# Altium schematic symbol library Connector.SchLib: 400 symbols (part 5 of 5)
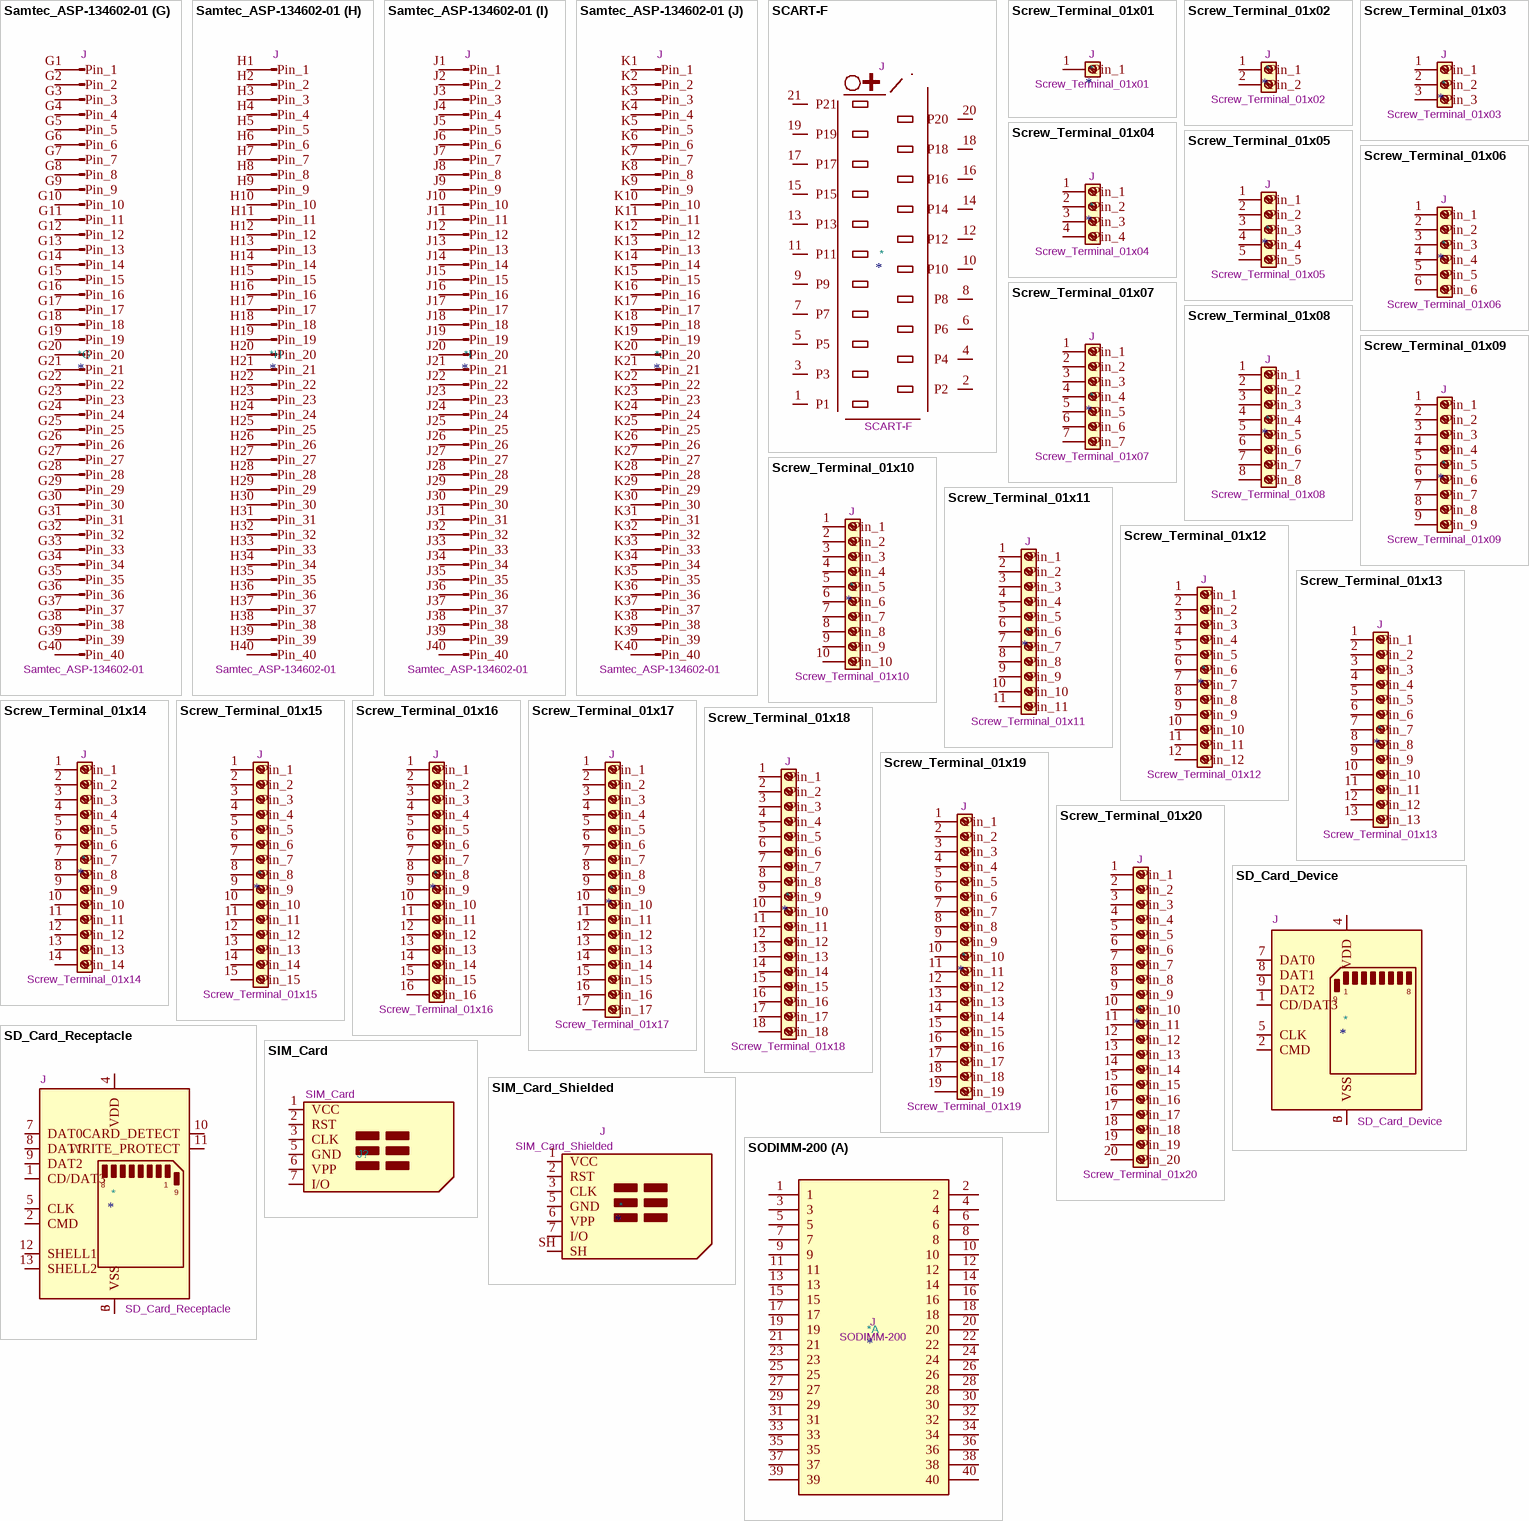
[diagram p21: symbols Samtec_ASP-134602-01 to SODIMM-200]

## Screw_Terminal_01x17
designator *  value Screw_Terminal_01x17  Reference: J
Generic screw terminal, single row, 01x17, script generated (kicad-library-utils/schlib/autogen/connector/); ki_fp_filters: TerminalBlock*:*; Datasheet: ~; Description_: Generic screw terminal, single row, 01x17, script generated (kicad-library-utils/schlib/autogen/connector/); ki_keywords: screw terminal
pins: 1 Pin_1, 2 Pin_2, 3 Pin_3, 4 Pin_4, 5 Pin_5, 6 Pin_6, 7 Pin_7, 8 Pin_8, 9 Pin_9, 10 Pin_10, 11 Pin_11, 12 Pin_12, 13 Pin_13, 14 Pin_14, 15 Pin_15, 16 Pin_16, 17 Pin_17

## Screw_Terminal_01x18
designator *  value Screw_Terminal_01x18  Reference: J
Generic screw terminal, single row, 01x18, script generated (kicad-library-utils/schlib/autogen/connector/); ki_fp_filters: TerminalBlock*:*; Datasheet: ~; Description_: Generic screw terminal, single row, 01x18, script generated (kicad-library-utils/schlib/autogen/connector/); ki_keywords: screw terminal
pins: 1 Pin_1, 2 Pin_2, 3 Pin_3, 4 Pin_4, 5 Pin_5, 6 Pin_6, 7 Pin_7, 8 Pin_8, 9 Pin_9, 10 Pin_10, 11 Pin_11, 12 Pin_12, 13 Pin_13, 14 Pin_14, 15 Pin_15, 16 Pin_16, 17 Pin_17, 18 Pin_18

## Screw_Terminal_01x19
designator *  value Screw_Terminal_01x19  Reference: J
Generic screw terminal, single row, 01x19, script generated (kicad-library-utils/schlib/autogen/connector/); ki_fp_filters: TerminalBlock*:*; Datasheet: ~; Description_: Generic screw terminal, single row, 01x19, script generated (kicad-library-utils/schlib/autogen/connector/); ki_keywords: screw terminal
pins: 1 Pin_1, 2 Pin_2, 3 Pin_3, 4 Pin_4, 5 Pin_5, 6 Pin_6, 7 Pin_7, 8 Pin_8, 9 Pin_9, 10 Pin_10, 11 Pin_11, 12 Pin_12, 13 Pin_13, 14 Pin_14, 15 Pin_15, 16 Pin_16, 17 Pin_17, 18 Pin_18, 19 Pin_19

## Screw_Terminal_01x20
designator *  value Screw_Terminal_01x20  Reference: J
Generic screw terminal, single row, 01x20, script generated (kicad-library-utils/schlib/autogen/connector/); ki_fp_filters: TerminalBlock*:*; Datasheet: ~; Description_: Generic screw terminal, single row, 01x20, script generated (kicad-library-utils/schlib/autogen/connector/); ki_keywords: screw terminal
pins: 1 Pin_1, 2 Pin_2, 3 Pin_3, 4 Pin_4, 5 Pin_5, 6 Pin_6, 7 Pin_7, 8 Pin_8, 9 Pin_9, 10 Pin_10, 11 Pin_11, 12 Pin_12, 13 Pin_13, 14 Pin_14, 15 Pin_15, 16 Pin_16, 17 Pin_17, 18 Pin_18, 19 Pin_19, 20 Pin_20

## SD_Card_Device
designator *  value SD_Card_Device  Reference: J
SD card device/card; ki_keywords: connector SD; ki_fp_filters: SD*Device*; Datasheet: http://www.convict.lu/pdf/ProdManualSDCardv1.9.pdf; Description_: SD card device/card
pins: 1 CD/DAT3, 2 CMD, 3 VSS, 4 VDD, 5 CLK, 6 VSS, 7 DAT0, 8 DAT1, 9 DAT2

## SD_Card_Receptacle
designator *  value SD_Card_Receptacle  Reference: J
SD card receptacle; ki_keywords: connector SD; ki_fp_filters: SD*; Datasheet: http://portal.fciconnect.com/Comergent//fci/drawing/10067847.pdf; Description_: SD card receptacle
pins: 1 CD/DAT3, 2 CMD, 3 VSS, 4 VDD, 5 CLK, 6 VSS, 7 DAT0, 8 DAT1, 9 DAT2, 10 CARD_DETECT, 11 WRITE_PROTECT, 12 SHELL1, 13 SHELL2

## SIM_Card
designator J?  value SIM_Card  (hidden comment: *)
SIM Card; ki_keywords: SIM card UICC; ki_fp_filters: *SIM*Card*Holder*; Reference: J; Datasheet: ~; Description_: SIM Card
footprint KLS1-SIM-076_NANO_Push
pins: 1 VCC, 2 RST, 3 CLK, 5 GND, 6 VPP, 7 I/O

## SIM_Card_Shielded
designator *  value SIM_Card_Shielded  Reference: J
SIM Card; ki_keywords: SIM card UICC; ki_fp_filters: *SIM*Card*Holder*; Datasheet: ~; Description_: SIM Card
pins: 1 VCC, 2 RST, 3 CLK, 5 GND, 6 VPP, 7 I/O, SH

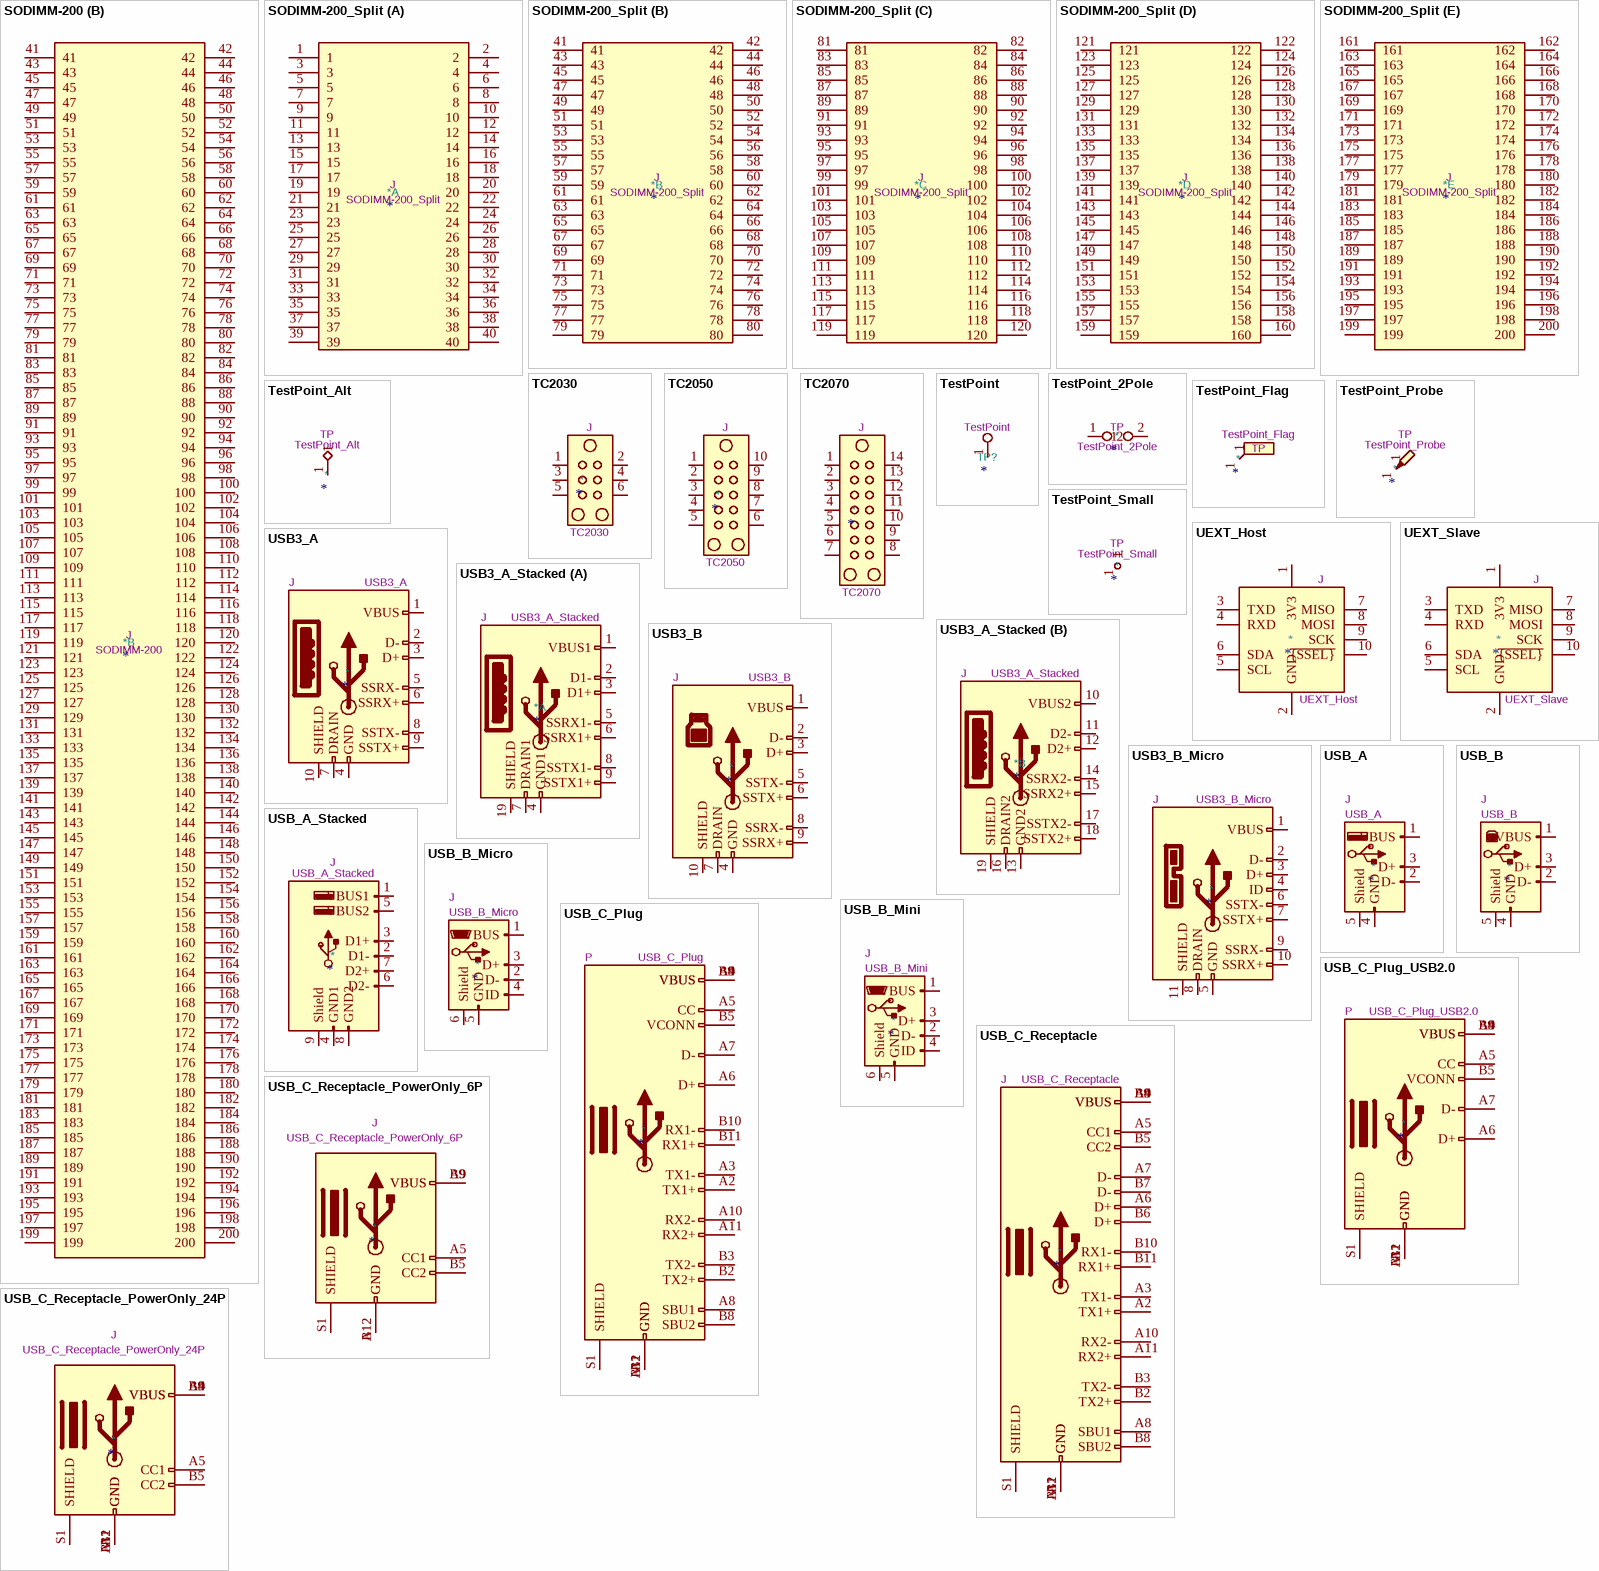
[diagram p16: symbols SODIMM-200 to USB_C_Receptacle_PowerOnly_24P]

## SODIMM-200
designator *  value SODIMM-200  Reference: J
SODIMM 200 Pin socket; ki_keywords: SODIMM SO-DIMM DDR1 DDR2; ki_fp_filters: *SODIMM*; Datasheet: ~; Description_: SODIMM 200 Pin socket
part A pins: 1, 2, 3, 4, 5, 6, 7, 8, 9, 10, 11, 12, 13, 14, 15, 16, 17, 18, 19, 20, 21, 22, 23, 24, 25, 26, 27, 28, 29, 30, 31, 32, 33, 34, 35, 36, 37, 38, 39, 40
part B pins: 41, 42, 43, 44, 45, 46, 47, 48, 49, 50, 51, 52, 53, 54, 55, 56, 57, 58, 59, 60, 61, 62, 63, 64, 65, 66, 67, 68, 69, 70, 71, 72, 73, 74, 75, 76, 77, 78, 79, 80, 81, 82, 83, 84, 85, 86, 87, 88, 89, 90, 91, 92, 93, 94, 95, 96, 97, 98, 99, 100, 101, 102, 103, 104, 105, 106, 107, 108, 109, 110, 111, 112, 113, 114, 115, 116, 117, 118, 119, 120, 121, 122, 123, 124, 125, 126, 127, 128, 129, 130, 131, 132, 133, 134, 135, 136, 137, 138, 139, 140, 141, 142, 143, 144, 145, 146, 147, 148, 149, 150, 151, 152, 153, 154, 155, 156, 157, 158, 159, 160, 161, 162, 163, 164, 165, 166, 167, 168, 169, 170, 171, 172, 173, 174, 175, 176, 177, 178, 179, 180, 181, 182, 183, 184, 185, 186, 187, 188, 189, 190, 191, 192, 193, 194, 195, 196, 197, 198, 199, 200

## SODIMM-200_Split
designator *  value SODIMM-200_Split  Reference: J
SODIMM 200 Pin socket; ki_keywords: SODIMM SO-DIMM DDR1 DDR2; ki_fp_filters: *SODIMM*; Datasheet: ~; Description_: SODIMM 200 Pin socket
part A pins: 1, 2, 3, 4, 5, 6, 7, 8, 9, 10, 11, 12, 13, 14, 15, 16, 17, 18, 19, 20, 21, 22, 23, 24, 25, 26, 27, 28, 29, 30, 31, 32, 33, 34, 35, 36, 37, 38, 39, 40
part B pins: 41, 42, 43, 44, 45, 46, 47, 48, 49, 50, 51, 52, 53, 54, 55, 56, 57, 58, 59, 60, 61, 62, 63, 64, 65, 66, 67, 68, 69, 70, 71, 72, 73, 74, 75, 76, 77, 78, 79, 80
part C pins: 81, 82, 83, 84, 85, 86, 87, 88, 89, 90, 91, 92, 93, 94, 95, 96, 97, 98, 99, 100, 101, 102, 103, 104, 105, 106, 107, 108, 109, 110, 111, 112, 113, 114, 115, 116, 117, 118, 119, 120
part D pins: 121, 122, 123, 124, 125, 126, 127, 128, 129, 130, 131, 132, 133, 134, 135, 136, 137, 138, 139, 140, 141, 142, 143, 144, 145, 146, 147, 148, 149, 150, 151, 152, 153, 154, 155, 156, 157, 158, 159, 160
part E pins: 161, 162, 163, 164, 165, 166, 167, 168, 169, 170, 171, 172, 173, 174, 175, 176, 177, 178, 179, 180, 181, 182, 183, 184, 185, 186, 187, 188, 189, 190, 191, 192, 193, 194, 195, 196, 197, 198, 199, 200

## TC2030
designator *  value TC2030  Reference: J
Tag-Connect’s 6-pins connector; ki_keywords: Debug plug-of-nails; ki_fp_filters: *TC2030*; Footprint: Connector:Tag-Connect_TC2030-IDC-NL_2x03_P1.27mm_Vertical; Datasheet: https://www.tag-connect.com/wp-content/uploads/bsk-pdf-manager/2019/12/TC2030-IDC-NL-Datasheet-Rev-B.pdf; Description_: Tag-Connect’s 6-pins connector
pins: 1, 2, 3, 4, 5, 6

## TC2050
designator *  value TC2050  Reference: J
Tag-Connect’s 10-pins connector; ki_keywords: Debug plug-of-nails; ki_fp_filters: *TC2050*; Footprint: Connector:Tag-Connect_TC2050-IDC-NL_2x05_P1.27mm_Vertical; Datasheet: https://www.tag-connect.com/wp-content/uploads/bsk-pdf-manager/TC2050-IDC-NL_Datasheet_8.pdf; Description_: Tag-Connect’s 10-pins connector
pins: 1, 2, 3, 4, 5, 6, 7, 8, 9, 10

## TC2070
designator *  value TC2070  Reference: J
Tag-Connect’s 14-pins connector; ki_keywords: Debug plug-of-nails; ki_fp_filters: *TC2070*; Footprint: Connector:Tag-Connect_TC2070-IDC-FP_2x07_P1.27mm_Vertical; Datasheet: https://www.tag-connect.com/wp-content/uploads/bsk-pdf-manager/TC2070-IDC-NL_Datasheet_12.pdf; Description_: Tag-Connect’s 14-pins connector
pins: 1, 2, 3, 4, 5, 6, 7, 8, 9, 10, 11, 12, 13, 14

## TestPoint
designator TP?  value TestPoint
test point; ki_keywords: test point tp; ki_fp_filters: Pin* Test*; Reference: TP; Datasheet: ~; Description_: test point
footprint Fiducial_0.5mm_Mask1mm
footprint Fiducial_0.5mm_Mask1.5mm
footprint Fiducial_0.5mm_Mask2mm
footprint Fiducial_0.75mm_Mask1.5mm
footprint Fiducial_0.75mm_Mask2.25mm
footprint Fiducial_1mm_Mask2mm
footprint Fiducial_1mm_Mask3mm
footprint Fiducial_1.5mm_Mask3mm
footprint Fiducial_1.5mm_Mask4.5mm
footprint Fiducial_Cross_0.5mm_Mask2mm
pins: 1

## TestPoint_2Pole
designator *  value TestPoint_2Pole  Reference: TP
2-polar test point; ki_keywords: point tp; ki_fp_filters: Pin* Test*; Datasheet: ~; Description_: 2-polar test point
pins: 1, 2

## TestPoint_Alt
designator *  value TestPoint_Alt  Reference: TP
test point (alternative shape); ki_keywords: test point tp; ki_fp_filters: Pin* Test*; Datasheet: ~; Description_: test point (alternative shape)
pins: 1

## TestPoint_Flag
designator *  value TestPoint_Flag  Reference: TP
test point (alternative flag-style design); ki_keywords: test point tp; ki_fp_filters: Pin* Test*; Datasheet: ~; Description_: test point (alternative flag-style design)
pins: 1

## TestPoint_Probe
designator *  value TestPoint_Probe  Reference: TP
test point (alternative probe-style design); ki_keywords: test point tp; ki_fp_filters: Pin* Test*; Datasheet: ~; Description_: test point (alternative probe-style design)
pins: 1

## TestPoint_Small
designator *  value TestPoint_Small  Reference: TP
test point; ki_keywords: test point tp; ki_fp_filters: Pin* Test*; Datasheet: ~; Description_: test point
pins: 1

## UEXT_Host
designator *  value UEXT_Host  Reference: J
Universal EXTension (UEXT) is a connector layout which includes power and three serial buses: Asynchronous, I2C, and SPI; ki_keywords: UEXT, SPI, UART, I2C; ki_fp_filters: *Connector*:2x05*; Datasheet: https://www.olimex.com/Products/Modules/UEXT/resources/UEXT_rev_B.pdf; Description_: Universal EXTension (UEXT) is a connector layout which includes power and three serial buses: Asynchronous, I2C, and SPI
pins: 1 3V3, 2 GND, 3 TXD, 4 RXD, 5 SCL, 6 SDA, 7 MISO, 8 MOSI, 9 SCK, 10 ~{{SSEL}}

## UEXT_Slave
designator *  value UEXT_Slave  Reference: J
Universal EXTension (UEXT) is a connector layout which includes power and three serial buses: Asynchronous, I2C, and SPI; ki_keywords: UEXT, SPI, UART, I2C; ki_fp_filters: *Connector*:2x05*; Datasheet: https://www.olimex.com/Products/Modules/UEXT/resources/UEXT_rev_B.pdf; Description_: Universal EXTension (UEXT) is a connector layout which includes power and three serial buses: Asynchronous, I2C, and SPI
pins: 1 3V3, 2 GND, 3 TXD, 4 RXD, 5 SCL, 6 SDA, 7 MISO, 8 MOSI, 9 SCK, 10 ~{{SSEL}}

## USB3_A
designator *  value USB3_A  Reference: J
USB 3.0 A connector; ki_keywords: usb universal serial bus; ki_fp_filters: USB3*; Datasheet: ~; Description_: USB 3.0 A connector
pins: 1 VBUS, 2 D-, 3 D+, 4 GND, 5 SSRX-, 6 SSRX+, 7 DRAIN, 8 SSTX-, 9 SSTX+, 10 SHIELD

## USB3_A_Stacked
designator *  value USB3_A_Stacked  Reference: J
USB 3.0 A connector, stacked; ki_keywords: usb universal serial bus; ki_fp_filters: USB3?A*Stacked*; Datasheet: ~; Description_: USB 3.0 A connector, stacked
footprint USB3_A_Molex_48406-0001_Horizontal_Stacked
part A pins: 1 VBUS1, 2 D1-, 3 D1+, 4 GND1, 5 SSRX1-, 6 SSRX1+, 7 DRAIN1, 8 SSTX1-, 9 SSTX1+, 19 SHIELD
part B pins: 10 VBUS2, 11 D2-, 12 D2+, 13 GND2, 14 SSRX2-, 15 SSRX2+, 16 DRAIN2, 17 SSTX2-, 18 SSTX2+, 19 SHIELD

## USB3_B
designator *  value USB3_B  Reference: J
USB 3.0 B connector; ki_keywords: usb universal serial bus; Datasheet: ~; Description_: USB 3.0 B connector
pins: 1 VBUS, 2 D-, 3 D+, 4 GND, 5 SSTX-, 6 SSTX+, 7 DRAIN, 8 SSRX-, 9 SSRX+, 10 SHIELD

## USB3_B_Micro
designator *  value USB3_B_Micro  Reference: J
USB 3.0 Micro-B connector; ki_keywords: usb universal serial bus; Datasheet: ~; Description_: USB 3.0 Micro-B connector
pins: 1 VBUS, 2 D-, 3 D+, 4 ID, 5 GND, 6 SSTX-, 7 SSTX+, 8 DRAIN, 9 SSRX-, 10 SSRX+, 11 SHIELD

## USB_A
designator *  value USB_A  Reference: J
USB Type A connector; ki_keywords: connector USB; ki_fp_filters: USB*; Datasheet: ~; Description_: USB Type A connector
pins: 1 VBUS, 2 D-, 3 D+, 4 GND, 5 Shield

## USB_A_Stacked
designator *  value USB_A_Stacked  Reference: J
USB Type A connector, stacked; ki_keywords: connector USB; ki_fp_filters: USB*; Datasheet: ~; Description_: USB Type A connector, stacked
footprint USB_A_Wuerth_61400826021_Horizontal_Stacked
pins: 1 VBUS1, 2 D1-, 3 D1+, 4 GND1, 5 VBUS2, 6 D2-, 7 D2+, 8 GND2, 9 Shield

## USB_B
designator *  value USB_B  Reference: J
USB Type B connector; ki_keywords: connector USB; ki_fp_filters: USB*; Datasheet: ~; Description_: USB Type B connector
pins: 1 VBUS, 2 D-, 3 D+, 4 GND, 5 Shield

## USB_B_Micro
designator *  value USB_B_Micro  Reference: J
USB Micro Type B connector; ki_keywords: connector USB micro; ki_fp_filters: USB*Micro*B*; Datasheet: ~; Description_: USB Micro Type B connector
pins: 1 VBUS, 2 D-, 3 D+, 4 ID, 5 GND, 6 Shield

## USB_B_Mini
designator *  value USB_B_Mini  Reference: J
USB Mini Type B connector; ki_keywords: connector USB mini; ki_fp_filters: USB*Mini*B*; Datasheet: ~; Description_: USB Mini Type B connector
pins: 1 VBUS, 2 D-, 3 D+, 4 ID, 5 GND, 6 Shield

## USB_C_Plug
designator *  value USB_C_Plug  Reference: P
USB Type-C Plug connector; ki_keywords: usb universal serial bus; ki_fp_filters: USB*C*Plug*; Datasheet: https://www.usb.org/sites/default/files/documents/usb_type-c.zip; Description_: USB Type-C Plug connector
pins: A1 GND, A2 TX1+, A3 TX1-, A4 VBUS, A5 CC, A6 D+, A7 D-, A8 SBU1, A9 VBUS, A10 RX2-, A11 RX2+, A12 GND, B1 GND, B2 TX2+, B3 TX2-, B4 VBUS, B5 VCONN, B8 SBU2, B9 VBUS, B10 RX1-, B11 RX1+, B12 GND, S1 SHIELD

## USB_C_Plug_USB2.0
designator *  value USB_C_Plug_USB2.0  Reference: P
USB 2.0-only Type-C Plug connector; ki_keywords: usb universal serial bus type-C USB2.0; ki_fp_filters: USB*C*Plug*; Datasheet: https://www.usb.org/sites/default/files/documents/usb_type-c.zip; Description_: USB 2.0-only Type-C Plug connector
pins: A1 GND, A4 VBUS, A5 CC, A6 D+, A7 D-, A9 VBUS, A12 GND, B1 GND, B4 VBUS, B5 VCONN, B9 VBUS, B12 GND, S1 SHIELD

## USB_C_Receptacle
designator *  value USB_C_Receptacle  Reference: J
USB Full-Featured Type-C Receptacle connector; ki_keywords: usb universal serial bus type-C full-featured; ki_fp_filters: USB*C*Receptacle*; Datasheet: https://www.usb.org/sites/default/files/documents/usb_type-c.zip; Description_: USB Full-Featured Type-C Receptacle connector
pins: A1 GND, A2 TX1+, A3 TX1-, A4 VBUS, A5 CC1, A6 D+, A7 D-, A8 SBU1, A9 VBUS, A10 RX2-, A11 RX2+, A12 GND, B1 GND, B2 TX2+, B3 TX2-, B4 VBUS, B5 CC2, B6 D+, B7 D-, B8 SBU2, B9 VBUS, B10 RX1-, B11 RX1+, B12 GND, S1 SHIELD

## USB_C_Receptacle_PowerOnly_6P
designator *  value USB_C_Receptacle_PowerOnly_6P  Reference: J
USB Power-Only 6P Type-C Receptacle connector; ki_keywords: usb universal serial bus type-C power-only charging-only 6P 6C; ki_fp_filters: USB*C*Receptacle*; Datasheet: https://www.usb.org/sites/default/files/documents/usb_type-c.zip; Description_: USB Power-Only 6P Type-C Receptacle connector
pins: A5 CC1, A9 VBUS, A12 GND, B5 CC2, B9 VBUS, B12 GND, S1 SHIELD

## USB_C_Receptacle_PowerOnly_24P
designator *  value USB_C_Receptacle_PowerOnly_24P  Reference: J
USB Power-Only 24P Type-C Receptacle connector; ki_keywords: usb universal serial bus type-C power-only charging-only 24P 24C; ki_fp_filters: USB*C*Receptacle*; Datasheet: https://www.usb.org/sites/default/files/documents/usb_type-c.zip; Description_: USB Power-Only 24P Type-C Receptacle connector
pins: A1 GND, A4 VBUS, A5 CC1, A9 VBUS, A12 GND, B1 GND, B4 VBUS, B5 CC2, B9 VBUS, B12 GND, S1 SHIELD

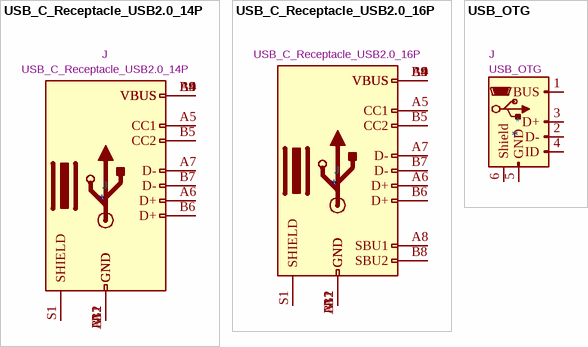
[diagram p17: symbols USB_C_Receptacle_USB2.0_14P to USB_OTG]

## USB_C_Receptacle_USB2.0_14P
designator J  value USB_C_Receptacle_USB2.0_14P  Reference: J
USB 2.0-only 14P Type-C Receptacle connector; ki_keywords: usb universal serial bus type-C USB2.0; ki_fp_filters: USB*C*Receptacle*; Datasheet: https://www.usb.org/sites/default/files/documents/usb_type-c.zip; Description_: USB 2.0-only 14P Type-C Receptacle connector
footprint USB_C_Receptacle_GCT_USB4105-xx-A_16P_TopMnt
pins: A1 GND, A4 VBUS, A5 CC1, A6 D+, A7 D-, A9 VBUS, A12 GND, B1 GND, B4 VBUS, B5 CC2, B6 D+, B7 D-, B9 VBUS, B12 GND, S1 SHIELD

## USB_C_Receptacle_USB2.0_16P
designator J  value USB_C_Receptacle_USB2.0_16P
USB 2.0-only 16P Type-C Receptacle connector; ki_keywords: usb universal serial bus type-C USB2.0; ki_fp_filters: USB*C*Receptacle*; Reference: J; DNP: P; Datasheet: https://www.usb.org/sites/default/files/documents/usb_type-c.zip; Description_: USB 2.0-only 16P Type-C Receptacle connector
footprint USB_C_Receptacle_GCT_USB4105-xx-A_16P_TopMnt
footprint SAMESKY_UJ20-C-V-G-SMT-P16-TR
pins: A1 GND, A4 VBUS, A5 CC1, A6 D+, A7 D-, A8 SBU1, A9 VBUS, A12 GND, B1 GND, B4 VBUS, B5 CC2, B6 D+, B7 D-, B8 SBU2, B9 VBUS, B12 GND, S1 SHIELD

## USB_OTG
designator *  value USB_OTG  Reference: J
USB mini/micro connector; ki_keywords: connector USB; ki_fp_filters: USB*; Datasheet: ~; Description_: USB mini/micro connector
pins: 1 VBUS, 2 D-, 3 D+, 4 ID, 5 GND, 6 Shield